# Altium schematic symbol library miniquad_713_schlib.SchLib: 5 symbols
Pins are listed as number, name and electrical type; pins without a type are passive.

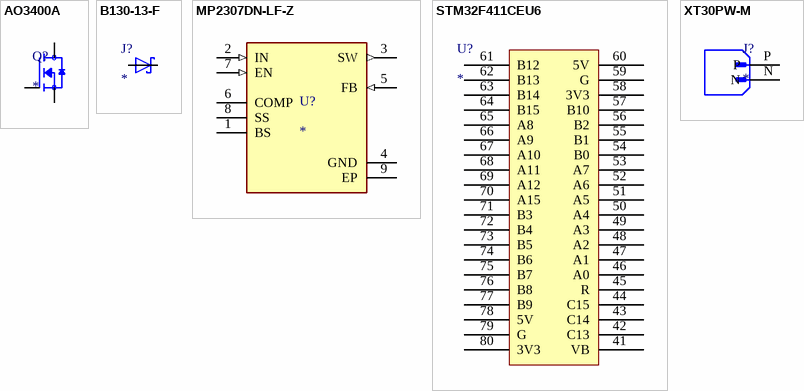
[diagram p0: symbols AO3400A to XT30PW-M]

## AO3400A
designator Q?
N-Channel 30 V 5.8A (Ta) 1.4W (Ta) Surface Mount SOT-23; MF: UMW; MP: AO3400A; SnapEDA_Link: https://www.snapeda.com/parts/AO3400A/UMW/view-part/?ref=snap; Package: None; Value: *; Check_prices: https://www.snapeda.com/parts/AO3400A/UMW/view-part/?ref=eda
footprint SOT95P280X125-3N
pins: 1 G, 2 S, 3 D

## B130-13-F
designator J?
Diode Zener Dual 3.9V 5% 300mW 3Pin | Diodes Inc B130-13-F; MF: Diodes Inc.; SnapEDA_Link: https://www.snapeda.com/parts/B130-13-F/Diodes+Inc./view-part/?ref=snap; Package: DO-214 Diodes Inc.; Value: *; MP: B130-13-F; Check_prices: https://www.snapeda.com/parts/B130-13-F/Diodes+Inc./view-part/?ref=eda
footprint SMA
pins: A, C

## MP2307DN-LF-Z
designator U?
Buck Switching Regulator IC Positive Adjustable 0.925V 1 Output 3A 8-SOIC (0.154, 3.90mm Width) Exposed Pad; MF: Monolithic Power; MP: MP2307DN-LF-Z; Check_prices: https://www.snapeda.com/parts/MP2307DN-LF-Z/Monolithic+Power+Systems+Inc./view-part/?ref=eda; SnapEDA_Link: https://www.snapeda.com/parts/MP2307DN-LF-Z/Monolithic+Power+Systems+Inc./view-part/?ref=snap; Availability: In Stock; Value: *; Price: None; Package: SOIC-8 Monolithic Power; Purchase-URL: https://pricing.snapeda.com/search/part/MP2307DN-LF-Z/?ref=eda
footprint SOIC127P600X170-9N
pins: 1 BS, 2 IN (in), 3 SW (out), 4 GND (power), 5 FB (in), 6 COMP, 7 EN (in), 8 SS, 9 EP (power)

## STM32F411CEU6
designator U?
footprint STM32F411CEU6
pins: 41 VB, 42 C13, 43 C14, 44 C15, 45 R, 46 A0, 47 A1, 48 A2, 49 A3, 50 A4, 51 A5, 52 A6, 53 A7, 54 B0, 55 B1, 56 B2, 57 B10, 58 3V3, 59 G, 60 5V, 61 B12, 62 B13, 63 B14, 64 B15, 65 A8, 66 A9, 67 A10, 68 A11, 69 A12, 70 A15, 71 B3, 72 B4, 73 B5, 74 B6, 75 B7, 76 B8, 77 B9, 78 5V, 79 G, 80 3V3

## XT30PW-M
designator J?
Socket; DC supply; XT30; male; PIN: 2; on PCBs; THT; Colour: yellow; MF: AMASS; MP: XT30PW-M; SnapEDA_Link: https://www.snapeda.com/parts/XT30PW-M/AMASS/view-part/?ref=snap; Package: None; Value: *; Check_prices: https://www.snapeda.com/parts/XT30PW-M/AMASS/view-part/?ref=eda
footprint AMASS_XT30PW-M
pins: N (power), P (power)